# EAGLE library part 74HC595 (library nxp)
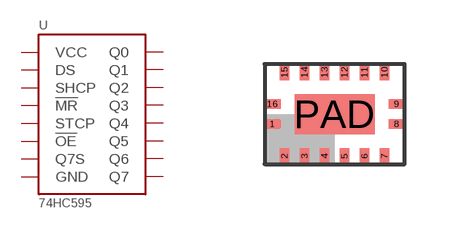
[diagram p3: symbol with the pads of DHVQFN16; footprint DHVQFN16]

Designator prefix -

## 74HC595_DHVQFN16  [DHVQFN16]
1  Q1
2  Q2
3  Q3
4  Q4
5  Q5
6  Q6
7  Q7
8  GND
9  Q7S
10  !MR
11  SHCP
12  STCP
13  !OE
14  DS
15  Q0
16  VCC
PAD  GND

## Footprint DHVQFN16 (pad centres in mm)
smd 0.4 x 0.24: 1 -1.55,-0.25; 8 1.55,-0.25; 9 1.55,0.25; 16 -1.55,0.25
smd 0.24 x 0.4: 2 -1.25,-1.05; 3 -0.75,-1.05; 4 -0.25,-1.05; 5 0.25,-1.05; 6 0.75,-1.05; 7 1.25,-1.05; 10 1.25,1.05; 11 0.75,1.05; 12 0.25,1.05; 13 -0.25,1.05; 14 -0.75,1.05; 15 -1.25,1.05
smd 2 x 1: PAD 0,0